# EAGLE library part ADXL320 (library IC)
*AEDXL320 Small and Thin +/-5g Accelerometer
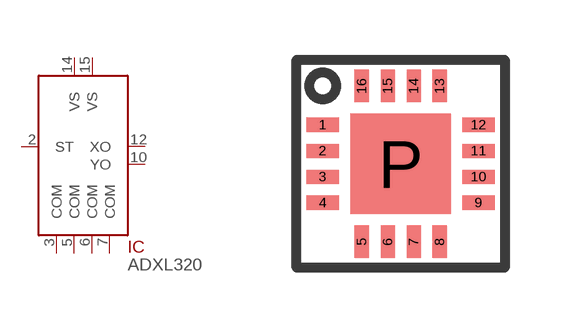
[diagram p103: symbol with the pads of LFCSP16; footprint LFCSP16]

Designator prefix IC

## ADXL320  [LFCSP16]
2  ST
3  COM  pwr
5  COM  pwr
6  COM  pwr
7  COM  pwr
10  YO
12  XO
14  VS  pwr
15  VS  pwr

## Footprint LFCSP16 (pad centres in mm)
Lead Frame Chip Scale Package 16 (Analog Devices)
smd 0.8 x 0.35: 1 -1.95,0.975; 2 -1.95,0.325; 3 -1.95,-0.325; 4 -1.95,-0.975; 9 1.95,-0.975; 10 1.95,-0.325; 11 1.95,0.325; 12 1.95,0.975
smd 0.35 x 0.8: 5 -0.975,-1.95; 6 -0.325,-1.95; 7 0.325,-1.95; 8 0.975,-1.95; 13 0.975,1.95; 14 0.325,1.95; 15 -0.325,1.95; 16 -0.975,1.95
smd 2.5 x 2.5: P 0,0